# EAGLE library part DCP0124D (library burr-brown)
Miniature 24V Input, 1W Isolated Unregulated DC/DC Converters
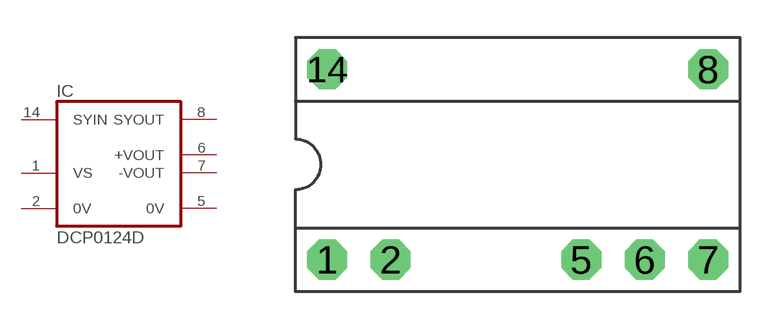
[diagram p204: symbol with the pads of DIP-14/7; footprint DIP-14/7]

Designator prefix IC

## DCP0124D  [DIP-14/7]
1  VS  pwr
2  0V  pwr
5  0V  pwr
6  +VOUT  pwr
7  -VOUT  nc
8  SYOUT  out
14  SYIN  in

## Footprint DIP-14/7 (pad centres in mm)
drill 0.813 pad 1.6 octagon: 1 -7.62,-3.81; 2 -5.08,-3.81; 5 2.54,-3.81; 6 5.08,-3.81; 7 7.62,-3.81; 8 7.62,3.81; 14 -7.62,3.81